# Altium schematic symbol library 1564KP2.Schlib: 1 symbol
Pins are listed as number, name and electrical type; pins without a type are passive.

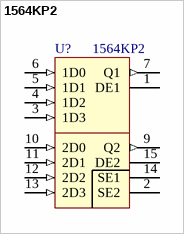
[diagram p0: symbol 1564KP2]

## 1564KP2
designator U?
Назначение: Мультиплексор; Наименование: 1564КП2
pins: 1 DE1 (oc), 2 SE2 (oc), 3 1D3 (in), 4 1D2 (in), 5 1D1 (in), 6 1D0 (in), 7 Q1 (out), 9 Q2 (out), 10 2D0 (in), 11 2D1 (in), 12 2D2 (in), 13 2D3 (in), 14 SE1 (oc), 15 DE2 (oc)